# Altium integrated library Integrated_Library_SMPS.IntLib: 5 symbols
Pins are listed as number, name and electrical type; pins without a type are passive.

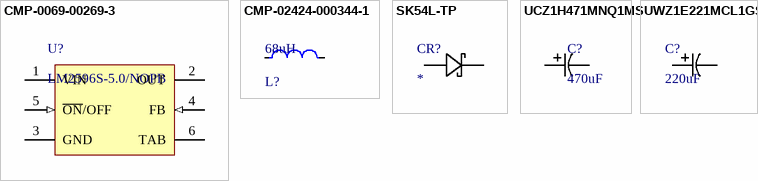
[diagram p0: symbols CMP-0069-00269-3 to UWZ1E221MCL1GS]

## CMP-0069-00269-3
designator U?, comment LM2596S-5.0/NOPB
SIMPLE SWITCHER® Power Converter 150 KHz 3A Step-Down Voltage Regulator, 5-pin TO-263, Pb-Free; Manufacturer: Texas Instruments; PowerWise: N; PackageTopMarking: NSUZXYTTE#*LM2596S*-5.0 P+; ComponentLink1URL: http://www.ti.com/general/docs/lit/getliterature.tsp?genericPartNumber=LM2596&fileType=pdf; PackageDescription: TO-263, Molded, .400 x .390 x .180in, 5 Lead, .067in Pitch, Surface Mount; RoHS: Y; PinCount: 5; Code_JEDEC: MO-169-AB; ComponentLink1Description: Datasheet URL; PackageReference: KTT0005B; CompType: Switcher
footprint KTT0005B_L (DPAK, 5-Leads, Body 10.65x9.65mm, Pitch 1.7mm, IPC High Density)
pins: 1 VIN (power), 2 OUT (power), 3 GND (power), 4 FB (in), 5 ~{ON}/OFF (in), 6 TAB (power)

## CMP-02424-000344-1
designator L?, comment 68uH
Commercial Inductors, Low DCR Series 68uH 6.1A 75.7mΩ 20%; Saturation Current: 4.5A; Core Material: Metal; Shielding: Shielded; DC Resistance (DCR): 75.7mR; Self Resonant Frequency: 3MHz; Test Frequency: 100kHz; Lead Free: Lead Free; Packaging: Tape and Reel; Current Rating: 6.1A; Tolerance: 20%; Military Standard: Not; Depth: 17.15mm; Radiation Hardening: No; Package Quantity: 200; Height - Seated (Max): 0.276inch; Max DC Current: 4.5A; Termination: SMD/SMT; Width: 17.15mm; Inductance: 68uH; Case/Package: 6767; RMS Current (Irms): 6.1A; Height: 7mm; Length: 17.15mm; Min Operating Temperature: -55°C; Mount: Surface Mount; Max Operating Temperature: 125°C; Number of Pins: 2; Inductance Tolerance: 20%
footprint FP-IHLP-6767GZ-FP_3_825x1-MFG
pins: 1, 2

## SK54L-TP
designator CR?
No Description Available; Mfr_Name: MCC
footprint SDO_SMC-DO-214AB_MCE
pins: 1 11, 2 12

## UCZ1H471MNQ1MS
designator C?, comment 470uF
470ÂµF 50V Aluminum Electrolytic Capacitors Radial, Can - SMD 80mOhm @ 100kHz 3500 Hrs @ 125Â°C; MF: Nichicon; MP: UCZ1H471MNQ1MS; SnapEDA_Link: https://www.snapeda.com/parts/UCZ1H471MNQ1MS/Nichicon/view-part/2424952/?ref=snap; Availability: Unavailable; Value: *; Price: None; Package: Radial Nichicon
footprint CAPAE1710X1750N
pins: 1, 2

## UWZ1E221MCL1GS
designator C?, comment 220uF
No Description Available; Mfr_Name: Nichicon
footprint PCAP_8x10-ELECT_NCA
pins: 1, 2